# EAGLE library part TPS56*200 (library AllWinner V3s)
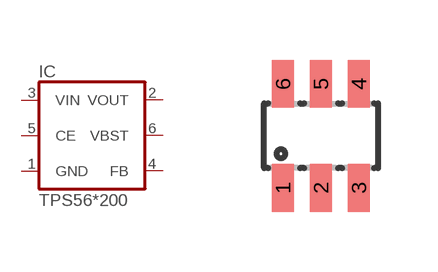
[diagram p3: symbol with the pads of SOT23-6L; footprint SOT23-6L]

Designator prefix IC

## TPS562200DBV, TPS563200DBV  [SOT23-6L]
1  GND  pas
2  VOUT  pas
3  VIN  in
4  FB  in
5  CE  in
6  VBST  pas

## Footprint SOT23-6L (pad centres in mm)
Small Outline Transistor
smd 0.55 x 1.2: 1 -0.95,-1.3; 2 0,-1.3; 3 0.95,-1.3; 4 0.95,1.3; 5 0,1.3; 6 -0.95,1.3